# Altium footprint library 400236.PcbLib: 64 footprints (part 3 of 4)
Each footprint in its own frame and in the unit in brackets; x right, y up, seen from the top. Pads: shape width x height; smd on the part's side, far side on the other; paste and mask are expansions set on the pad; w line width, h text height; cw(c..) or ccw(c..) is an arc to the next point about the centre after c.
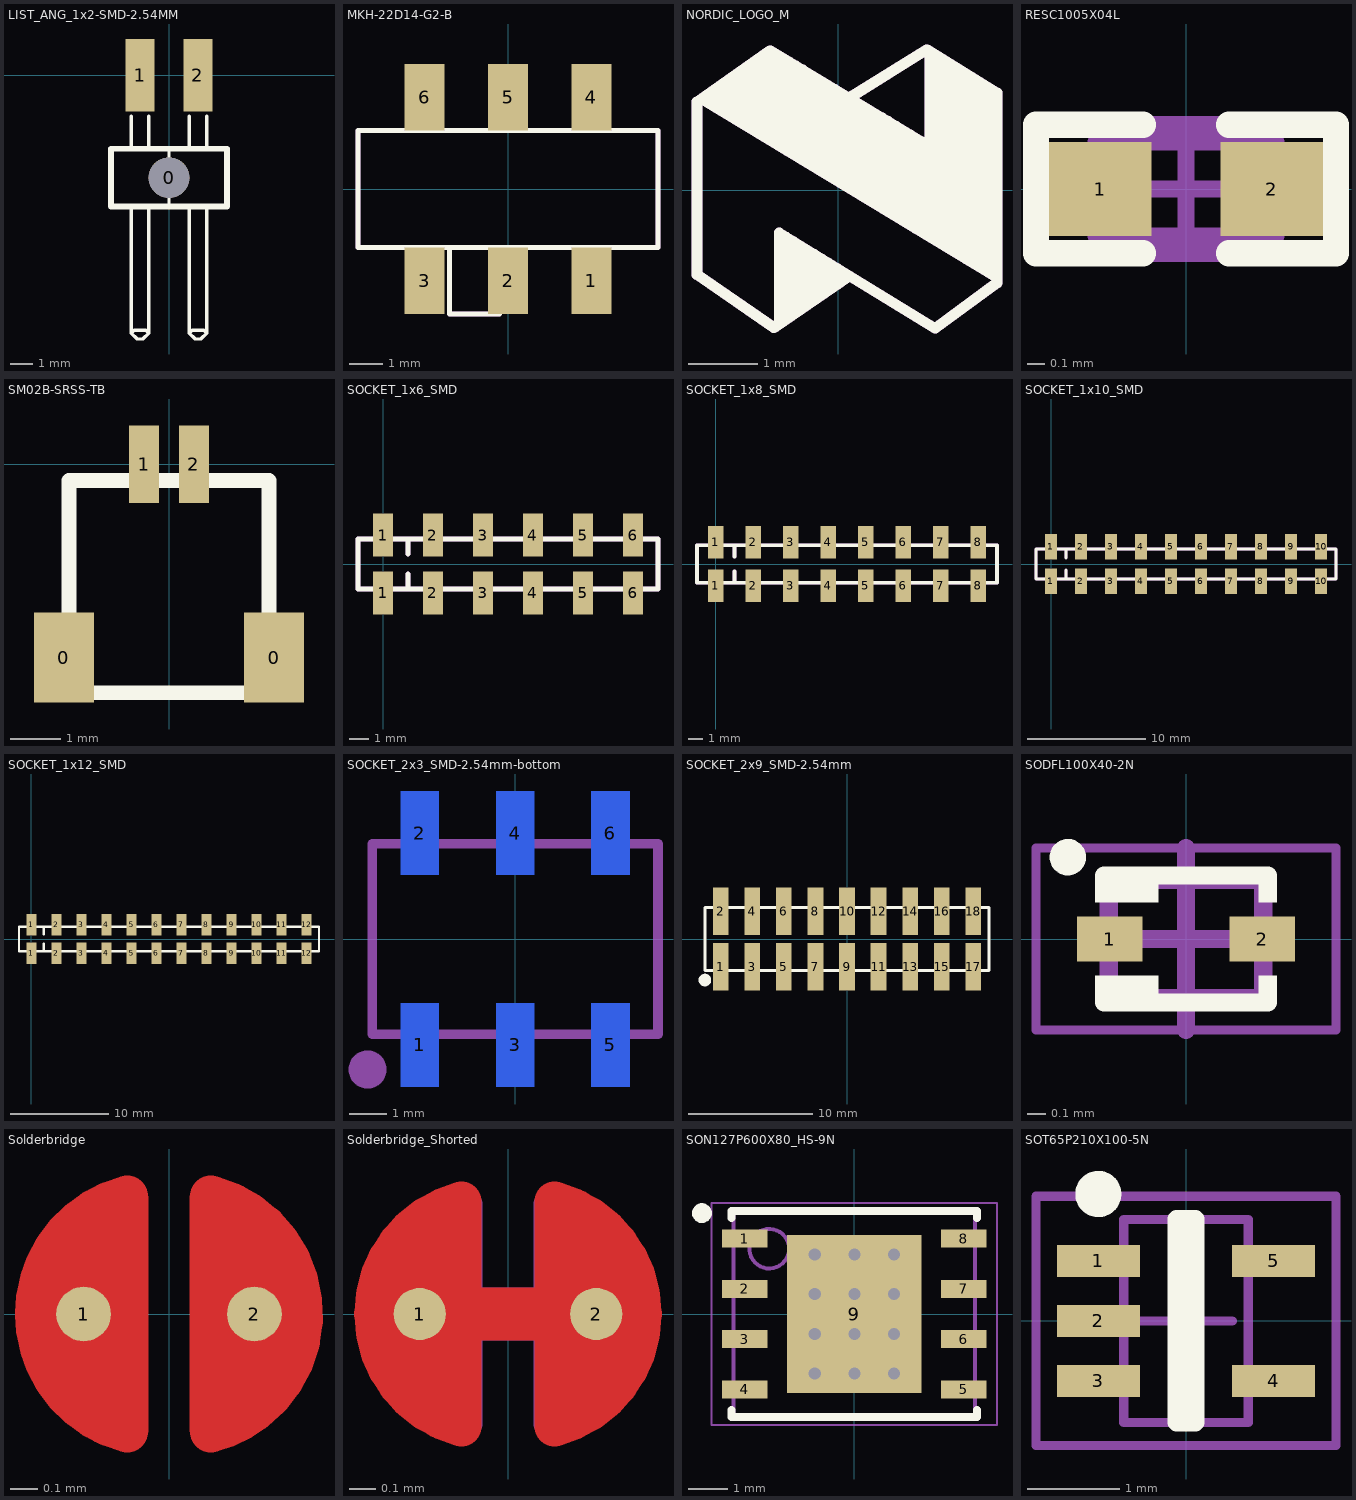
[diagram p2: the footprints below, top view; thin cyan lines are the x and y axes]

## LIST_ANG_1x2-SMD-2.54MM [mm]
pads (3):
  round 1.78 hole 1.78 unplated: 0(0,-4.496)
  rect 1.27x3.18 smd: 1(-1.27,0) 2(1.27,0)
Top Overlay:
  lines w0.15: -1.651,-5.766 -1.651,-11.324 ; -1.651,-3.226 -1.651,-1.8 ; -0.889,-5.766 -0.889,-11.324 ; -0.889,-3.226 -0.889,-1.8 ; 0,-5.766 0,-3.226 ; 0.889,-5.766 0.889,-11.324 ; 0.889,-3.226 0.889,-1.8 ; 1.651,-5.766 1.651,-11.324 ; 1.651,-3.226 1.651,-1.8 ; -1.651,-11.324 -1.524,-11.197 -1.016,-11.197 -0.889,-11.324 ; -1.651,-11.324 -1.397,-11.578 -1.143,-11.578 -0.889,-11.324 ; 0.889,-11.324 1.016,-11.197 1.524,-11.197 1.651,-11.324 ; 0.889,-11.324 1.143,-11.578 1.397,-11.578 1.651,-11.324
  lines w0.254: -2.54,-5.766 -2.54,-3.226 2.54,-3.226 2.54,-5.766 -2.54,-5.766
3D body "Samtec-TSM-102-01-L-SH-A.step": height 3.03, standoff -1.41, extent -2.56,-11.605 2.52,1.349

## MKH-22D14-G2-B [mm]
pads (6):
  rect 1.2x2 smd: 1(2.5,-2.75) 2(0,-2.75) 3(-2.5,-2.75) 4(2.5,2.75) 5(0,2.75) 6(-2.5,2.75)
Top Overlay:
  lines w0.152: -1.75,-1.75 -1.75,-3.75 -0.25,-3.75 -0.25,-1.75 ; -4.5,-1.75 4.5,-1.75 4.5,1.75 -4.5,1.75 -4.5,-1.75
Mechanical 7:
  lines w0.152: -1.75,-1.75 -1.75,-3.75 -0.25,-3.75 -0.25,-1.75 ; -4.5,-1.75 -4.5,1.75 4.5,1.75 4.5,-1.75 -4.5,-1.75
  text ".Designator" at -1.5,-0.25 h0.38
3D body "CL-SB-22B-11T.stp": height 3.5, standoff 0, extent -4.25,-3.75 4.25,2.5

## NORDIC_LOGO_M [mm]
Top Overlay:
  lines w0.152: -1.94,1.3 2.276,-1.25 ; -1.857,1.25 -0.876,1.93 ; -1.768,1.203 -0.788,1.891 ; -1.683,1.147 -0.697,1.839 ; -1.602,1.098 -0.615,1.79 ; -1.502,1.036 -0.515,1.729 ; -1.399,0.979 -0.417,1.668 ; -1.32,0.925 -0.332,1.619 ; -1.223,0.868 -0.237,1.56 ; -1.136,0.825 -0.157,1.512 ; -1.039,0.759 -0.055,1.449 ; -0.937,0.696 0.05,1.389 ; -0.93,-1.97 -2.03,-1.209 -2.03,1.27 -0.98,2.007 1.26,0.66 0.254,-0.025 ; -0.9,-1.956 0.16,-1.23 ; -0.85,-1.915 -0.85,-0.61 1.39,-1.98 2.276,-1.33 ; -0.832,0.633 0.17,1.336 ; -0.76,-1.85 -0.76,-0.668 ; -0.734,0.572 0.253,1.265 ; -0.64,-1.77 -0.64,-0.74 ; -0.638,0.517 0.343,1.205 ; -0.545,-1.71 -0.545,-0.8 ; -0.54,0.46 0.441,1.149 ; -0.461,0.411 0.523,1.102 ; -0.447,-1.64 -0.447,-0.86 ; -0.357,0.346 0.63,1.039 ; -0.35,-1.579 -0.35,-0.92 ; -0.274,0.295 0.714,0.988 ; -0.23,-1.497 -0.23,-0.99 ; -0.157,0.226 0.829,0.919 ; -0.14,-1.435 -0.14,-1.044 ; -0.052,0.163 0.933,0.855 ; -0.01,-1.346 -0.01,-1.124 ; 0.048,0.103 1.033,0.795 ; 0.138,0.044 1.144,0.711 ; 0.16,1.33 1.27,2.02 2.276,1.4 ; 0.22,-0.006 1.2,0.696 ; 0.305,-0.051 1.312,0.673 2.276,0.08 ; 0.426,-0.125 1.42,0.573 ; 0.534,-0.185 1.524,0.51 ; 0.635,-0.253 1.63,0.446 ; 0.741,-0.322 1.74,0.379 ; 0.836,-0.374 1.83,0.324 ; 0.932,-0.423 1.92,0.27 ; 1,-0.47 1.985,0.23 ; 1.103,-0.54 2.1,0.16 ; 1.238,-0.618 2.232,0.08 ; 1.31,0.73 1.31,1.99 ; 1.312,0.723 2.276,0.13 ; 1.312,0.853 2.276,0.26 ; 1.312,0.943 2.276,0.35 ; 1.312,1.073 2.276,0.48 ; 1.312,1.193 2.276,0.6 ; 1.312,1.273 2.276,0.68 ; 1.312,1.413 2.276,0.82 ; 1.312,1.533 2.276,0.94 ; 1.312,1.653 2.276,1.06 ; 1.312,1.743 2.276,1.15 ; 1.312,1.883 2.276,1.29 ; 1.325,-0.671 2.276,0.008 ; 1.435,-0.738 2.276,-0.136 ; 1.549,-0.809 2.276,-0.287 ; 1.645,-0.865 2.276,-0.411 ; 1.733,-0.916 2.276,-0.527 ; 1.829,-0.978 2.276,-0.651 ; 1.911,-1.028 2.276,-0.759 ; 2.025,-1.095 2.276,-0.908 ; 2.144,-1.166 2.276,-1.062 ; 2.276,-1.32 2.276,1.396
Mechanical 7:
  lines w0.152: -1.94,1.3 2.276,-1.25 ; -1.857,1.25 -0.876,1.93 ; -1.768,1.203 -0.788,1.891 ; -1.683,1.147 -0.697,1.839 ; -1.602,1.098 -0.615,1.79 ; -1.502,1.036 -0.515,1.729 ; -1.399,0.979 -0.417,1.668 ; -1.32,0.925 -0.332,1.619 ; -1.223,0.868 -0.237,1.56 ; -1.136,0.825 -0.157,1.512 ; -1.039,0.759 -0.055,1.449 ; -0.937,0.696 0.05,1.389 ; -0.93,-1.97 -2.03,-1.209 -2.03,1.27 -0.98,2.007 1.26,0.66 0.254,-0.025 ; -0.9,-1.956 0.16,-1.23 ; -0.85,-1.915 -0.85,-0.61 1.39,-1.98 2.276,-1.33 ; -0.832,0.633 0.17,1.336 ; -0.76,-1.85 -0.76,-0.668 ; -0.734,0.572 0.253,1.265 ; -0.64,-1.77 -0.64,-0.74 ; -0.638,0.517 0.343,1.205 ; -0.545,-1.71 -0.545,-0.8 ; -0.54,0.46 0.441,1.149 ; -0.461,0.411 0.523,1.102 ; -0.447,-1.64 -0.447,-0.86 ; -0.357,0.346 0.63,1.039 ; -0.35,-1.579 -0.35,-0.92 ; -0.274,0.295 0.714,0.988 ; -0.23,-1.497 -0.23,-0.99 ; -0.157,0.226 0.829,0.919 ; -0.14,-1.435 -0.14,-1.044 ; -0.052,0.163 0.933,0.855 ; -0.01,-1.346 -0.01,-1.124 ; 0.048,0.103 1.033,0.795 ; 0.138,0.044 1.144,0.711 ; 0.16,1.33 1.27,2.02 2.276,1.4 ; 0.22,-0.006 1.2,0.696 ; 0.305,-0.051 1.312,0.673 2.276,0.08 ; 0.426,-0.125 1.42,0.573 ; 0.534,-0.185 1.524,0.51 ; 0.635,-0.253 1.63,0.446 ; 0.741,-0.322 1.74,0.379 ; 0.836,-0.374 1.83,0.324 ; 0.932,-0.423 1.92,0.27 ; 1,-0.47 1.985,0.23 ; 1.103,-0.54 2.1,0.16 ; 1.238,-0.618 2.232,0.08 ; 1.31,0.73 1.31,1.99 ; 1.312,0.723 2.276,0.13 ; 1.312,0.853 2.276,0.26 ; 1.312,0.943 2.276,0.35 ; 1.312,1.073 2.276,0.48 ; 1.312,1.193 2.276,0.6 ; 1.312,1.273 2.276,0.68 ; 1.312,1.413 2.276,0.82 ; 1.312,1.533 2.276,0.94 ; 1.312,1.653 2.276,1.06 ; 1.312,1.743 2.276,1.15 ; 1.312,1.883 2.276,1.29 ; 1.325,-0.671 2.276,0.008 ; 1.435,-0.738 2.276,-0.136 ; 1.549,-0.809 2.276,-0.287 ; 1.645,-0.865 2.276,-0.411 ; 1.733,-0.916 2.276,-0.527 ; 1.829,-0.978 2.276,-0.651 ; 1.911,-1.028 2.276,-0.759 ; 2.025,-1.095 2.276,-0.908 ; 2.144,-1.166 2.276,-1.062 ; 2.276,-1.32 2.276,1.396

## RESC1005X04L [mm]
pads (2):
  rect 0.6x0.55 smd: 1(-0.5,0) 2(0.5,0)
Top Overlay:
  lines w0.152: -0.25,-0.375 -0.875,-0.375 -0.875,0.375 -0.25,0.375 ; 0.25,-0.375 0.875,-0.375 0.875,0.375 0.25,0.375
Mechanical 7:
  lines w0.1: -0.525,-0.275 0.525,-0.275 0.525,0.275 -0.525,0.275 -0.525,-0.275
  text ".Designator" at -0.532,0.384 h0.38
Mechanical 15:
  lines w0.1: -0.275,0 0.275,0 ; 0,-0.275 0,0.275 ; -0.875,-0.375 0.875,-0.375 0.875,0.375 -0.875,0.375 -0.875,-0.375
3D body "User Library-res0402-1.step": height 0.3, standoff 0, extent -0.5,-0.25 0.5,0.25

## SM02B-SRSS-TB [mm]
pads (4):
  rect 1.2x1.8 smd: 0(-2.1,-3.875) 0(2.1,-3.875)
  rect 0.6x1.55 smd: 1(-0.5,0) 2(0.5,0)
Top Overlay:
  lines w0.3: -2,-4.575 -2,-0.325 2,-0.325 2,-4.575 -2,-4.575
3D body "JST_SM02B-SRSS-TB.step": height 3, standoff 0, extent -1.994,-4.575 1.994,0.412

## SOCKET_1x6_SMD [mm]
pads (12):
  rect 1.02x2.19 smd: 1(0,-1.465) 1(0,1.465) 2(2.54,-1.465) 2(2.54,1.465) 3(5.08,-1.465) 3(5.08,1.465) 4(7.62,-1.465) 4(7.62,1.465) 5(10.16,-1.465) 5(10.16,1.465) 6(12.7,1.465) 6(12.7,-1.465)
Top Overlay:
  lines w0.254: 1.27,-1.27 1.27,-0.508 ; 1.27,0.508 1.27,1.27 ; -1.27,-1.27 13.97,-1.27 13.97,1.27 -1.27,1.27 -1.27,-1.27
Mechanical 7:
  lines w0.254: 1.27,-1.27 1.27,-0.508 ; 1.27,0.508 1.27,1.27 ; -1.27,-1.27 13.97,-1.27 13.97,1.27 -1.27,1.27 -1.27,-1.27
  text ".Designator" at 1.524,-0.254 h0.69
3D body "Samtec-SSM-106-L-SV.step": height 7.47, standoff -0.03, extent -1.27,-2.286 13.97,2.286

## SOCKET_1x8_SMD [mm]
pads (16):
  rect 1.02x2.19 smd: 1(0,-1.465) 1(0,1.465) 2(2.54,-1.465) 2(2.54,1.465) 3(5.08,-1.465) 3(5.08,1.465) 4(7.62,-1.465) 4(7.62,1.465) 5(10.16,-1.465) 5(10.16,1.465) 6(12.7,1.465) 6(12.7,-1.465) 7(15.24,-1.465) 7(15.24,1.465) 8(17.78,-1.465) 8(17.78,1.465)
Top Overlay:
  lines w0.254: 1.27,-1.27 1.27,-0.508 ; 1.27,0.508 1.27,1.27 ; -1.27,-1.27 19.05,-1.27 19.05,1.27 -1.27,1.27 -1.27,-1.27
Mechanical 7:
  lines w0.254: 1.27,-1.27 1.27,-0.508 ; 1.27,0.508 1.27,1.27 ; -1.27,-1.27 19.05,-1.27 19.05,1.27 -1.27,1.27 -1.27,-1.27
  text ".Designator" at 1.524,-0.254 h0.69
3D body "Samtec-SSM-108-L-SV.step": height 7.47, standoff -0.03, extent -1.27,-2.286 19.05,2.286

## SOCKET_1x10_SMD [mm]
pads (20):
  rect 1.02x2.19 smd: 1(0,-1.465) 1(0,1.465) 2(2.54,-1.465) 2(2.54,1.465) 3(5.08,-1.465) 3(5.08,1.465) 4(7.62,-1.465) 4(7.62,1.465) 5(10.16,-1.465) 5(10.16,1.465) 6(12.7,-1.465) 6(12.7,1.465) 7(15.24,-1.465) 7(15.24,1.465) 8(17.78,-1.465) 8(17.78,1.465) 9(20.32,-1.465) 9(20.32,1.465) 10(22.86,-1.465) 10(22.86,1.465)
Top Overlay:
  lines w0.254: 1.27,-1.27 1.27,-0.508 ; 1.27,0.508 1.27,1.27 ; -1.27,-1.27 -1.27,1.27 24.13,1.27 24.13,-1.27 -1.27,-1.27
Mechanical 7:
  lines w0.254: 1.27,-1.27 1.27,-0.508 ; 1.27,0.508 1.27,1.27 ; -1.27,-1.27 -1.27,1.27 24.13,1.27 24.13,-1.27 -1.27,-1.27
  text ".Designator" at 1.524,-0.254 h0.69
3D body "Samtec-SSM-110-L-SV.step": height 7.47, standoff -0.03, extent -1.27,-2.286 24.13,2.286

## SOCKET_1x12_SMD [mm]
pads (24):
  rect 1.02x2.19 smd: 1(0,-1.465) 1(0,1.465) 2(2.54,-1.465) 2(2.54,1.465) 3(5.08,-1.465) 3(5.08,1.465) 4(7.62,-1.465) 4(7.62,1.465) 5(10.16,-1.465) 5(10.16,1.465) 6(12.7,-1.465) 6(12.7,1.465) 7(15.24,-1.465) 7(15.24,1.465) 8(17.78,-1.465) 8(17.78,1.465) 9(20.32,-1.465) 9(20.32,1.465) 10(22.86,-1.465) 10(22.86,1.465) 11(25.4,-1.465) 11(25.4,1.465) 12(27.94,-1.465) 12(27.94,1.465)
Top Overlay:
  lines w0.254: 1.27,-1.27 1.27,-0.508 ; 1.27,0.508 1.27,1.27 ; -1.27,-1.27 29.21,-1.27 29.21,1.27 -1.27,1.27 -1.27,-1.27

## SOCKET_2x3_SMD-2.54mm-bottom [mm]
pads (6):
  rect 1.02x2.22 smd far side: 1(-2.54,-2.825) 2(-2.54,2.825) 3(0,-2.825) 4(0,2.825) 5(2.54,-2.825) 6(2.54,2.825)
Bottom Overlay:
  circle w0.508: c-3.936,-3.48 r0.254
  lines w0.254: -3.33,-2.54 -3.81,-2.54 -3.81,2.54 -3.33,2.54 ; -1.77,-2.54 -0.78,-2.54 ; -1.77,2.54 -0.78,2.54 ; 0.78,-2.54 1.77,-2.54 ; 0.78,2.54 1.77,2.54 ; 3.33,-2.54 3.81,-2.54 3.81,2.54 3.33,2.54
Mechanical 8:
  circle w0.508: c-3.936,-3.48 r0.254
  lines w0.254: -1.77,-2.54 -0.78,-2.54 ; -1.77,2.54 -0.78,2.54 ; 0.78,-2.54 1.77,-2.54 ; 0.78,2.54 1.77,2.54 ; 3.33,-2.54 3.81,-2.54 3.81,2.54 3.33,2.54 ; 3.556,-2.54 -3.81,-2.54 -3.81,2.54 3.556,2.54
  text ".Designator" at -3.429,-0.254 h0.69

## SOCKET_2x9_SMD-2.54mm [mil]
pads (18):
  rect 50x150 smd: 1(-400,-87.5) 2(-400,87.5) 3(-300,-87.5) 4(-300,87.5) 5(-200,-87.5) 6(-200,87.5) 7(-100,-87.5) 8(-100,87.5) 9(0,-87.5) 10(0,87.5) 11(100,-87.5) 12(100,87.5) 13(200,-87.5) 14(200,87.5) 15(300,-87.5) 16(300,87.5) 17(400,-87.5) 18(400,87.5)
Top Overlay:
  circle w20: c-450,-130 r10
  lines w10: -450,-100 450,-100 450,100 -450,100 -450,-100
3D body "Samtec-SSM-109-F-DV.step": height 290, standoff -2, extent -449.99,-138.49 450.01,138.51

## SODFL100X40-2N [mm]
pads (2):
  rect 0.36x0.25 smd: 1(-0.42,0) 2(0.42,0)
Top Overlay:
  circle w0.1: c-0.65,0.45 r0.05
  rectangle: 0.4,-0.35 0.5,-0.2
  rectangle: -0.5,0.2 -0.15,0.325
  rectangle: -0.5,-0.35 -0.15,-0.2
  rectangle: 0.4,0.2 0.5,0.35
  lines w0.1: -0.45,-0.3 -0.45,-0.35 0.45,-0.35 0.45,-0.3 ; -0.45,0.3 -0.45,0.35 0.45,0.35 0.45,0.3
Mechanical 7:
  lines w0.1: -0.425,-0.325 0.425,-0.325 0.425,0.325 -0.425,0.325 -0.425,-0.325
  text ".Designator" at -0.724,-0.177 h0.38
Mechanical 15:
  lines w0.05: -0.825,-0.5 0.825,-0.5 0.825,0.5 -0.825,0.5 -0.825,-0.5
  lines w0.1: -0.5,0 0.5,0 ; 0,-0.5 0,0.5
3D body "SODFL100X40-2N.step": height 0.4, standoff 0, extent -0.5,-0.325 0.5,0.325

## Solderbridge [mm]
pads (2):
  round 0.2 smd paste-10: 1(-0.312,0) 2(0.312,0)
Top Layer:
  region: -0.077,-0.432 -0.152,-0.505 -0.271,-0.467 -0.335,-0.424 -0.409,-0.351 -0.462,-0.292 -0.521,-0.193 -0.549,-0.099 -0.544,0.122 -0.518,0.193 -0.434,0.33 -0.351,0.411 -0.259,0.469 -0.157,0.5 -0.107,0.483 -0.077,0.43
  region: 0.077,0.432 0.152,0.505 0.271,0.467 0.335,0.424 0.409,0.351 0.462,0.292 0.521,0.193 0.549,0.099 0.544,-0.122 0.518,-0.193 0.434,-0.33 0.351,-0.411 0.259,-0.469 0.157,-0.5 0.107,-0.483 0.077,-0.43
  lines w0.152: -0.153,-0.431 cw(c-0.042,0) -0.471,-0.118 cw(c-0.042,0) -0.471,0.118 cw(c-0.042,0) -0.153,0.431 ; 0.153,-0.431 ccw(c0.042,0) 0.312,-0.353 ccw(c0.042,0) 0.153,0.431
Top Solder:
  circle w0.61: c-0.003,0 r0.279
Mechanical 7:
  region: -0.157,0.398 -0.282,0.398 -0.416,0.264 -0.501,0.178 -0.501,0.123 -0.501,-0.166 -0.271,-0.397 -0.157,-0.397 -0.16,0.066
  region: 0.157,-0.398 0.282,-0.398 0.416,-0.264 0.501,-0.178 0.501,-0.123 0.501,0.166 0.271,0.397 0.157,0.397 0.16,-0.066
  lines w0.102: -0.149,-0.42 cw(c-0.083,0) -0.149,0.42 -0.149,-0.42 ; 0.149,-0.42 ccw(c0.083,0) 0.149,0.42 0.149,-0.42
  text ".Designator" at -0.635,0.635 h0.38

## Solderbridge_Shorted [mm]
pads (2):
  round 0.2 smd paste-10: 1(-0.338,0) 2(0.338,0)
Top Layer:
  region: 0.102,0.432 0.178,0.505 0.296,0.467 0.361,0.424 0.434,0.351 0.488,0.292 0.546,0.193 0.574,0.099 0.569,-0.122 0.544,-0.193 0.46,-0.33 0.376,-0.411 0.284,-0.469 0.183,-0.5 0.132,-0.483 0.102,-0.43
  region: -0.102,-0.432 -0.178,-0.505 -0.296,-0.467 -0.361,-0.424 -0.434,-0.351 -0.488,-0.292 -0.546,-0.193 -0.574,-0.099 -0.569,0.122 -0.544,0.193 -0.46,0.33 -0.376,0.411 -0.284,0.469 -0.183,0.5 -0.132,0.483 -0.102,0.43
  lines w0.152: -0.178,-0.431 cw(c-0.068,0) -0.178,0.431 ; 0.178,-0.431 ccw(c0.068,0) 0.178,0.431
  lines w0.203: -0.338,0 0.338,0
Top Solder:
  circle w0.61: c0.028,0 r0.279
  circle w0.61: c-0.028,0 r0.279
Mechanical 7:
  region: 0.157,-0.398 0.282,-0.398 0.416,-0.264 0.501,-0.178 0.501,-0.123 0.501,0.166 0.271,0.397 0.157,0.397 0.16,-0.066
  region: -0.157,0.398 -0.282,0.398 -0.416,0.264 -0.501,0.178 -0.501,0.123 -0.501,-0.166 -0.271,-0.397 -0.157,-0.397 -0.16,0.066
  lines w0.102: -0.149,-0.42 cw(c-0.083,0) -0.149,0.42 -0.149,-0.42 ; 0.149,-0.42 ccw(c0.083,0) 0.149,0.42 0.149,-0.42
  lines w0.203: -0.254,0 0,0 0.254,0
  text ".Designator" at -0.635,0.635 h0.38

## SON127P600X80_HS-9N [mm]
pads (9):
  rect 1.15x0.45 smd: 1(-2.77,1.905) 2(-2.77,0.635) 3(-2.77,-0.635) 4(-2.77,-1.905) 5(2.77,-1.905) 6(2.77,-0.635) 7(2.77,0.635) 8(2.77,1.905)
  rect 3.4x4 smd paste-1.7: 9(0,0)
via -1,-1.5 diameter 0.61 hole 0.305
via -1,0.5 diameter 0.61 hole 0.305
via 0,-1.5 diameter 0.61 hole 0.305
via 0,-0.5 diameter 0.61 hole 0.305
via -1,-0.5 diameter 0.61 hole 0.305
via 0,0.5 diameter 0.61 hole 0.305
via -1,1.5 diameter 0.61 hole 0.305
via 0,1.5 diameter 0.61 hole 0.305
via 1,-1.5 diameter 0.61 hole 0.305
via 1,-0.5 diameter 0.61 hole 0.305
via 1,0.5 diameter 0.61 hole 0.305
via 1,1.5 diameter 0.61 hole 0.305
Top Overlay:
  circle w0.25: c-3.85,2.55 r0.125
  lines w0.2: -3.1,-2.43 -3.1,-2.6 3.1,-2.6 3.1,-2.43 ; -3.1,2.43 -3.1,2.6 3.1,2.6 3.1,2.43
Top Paste:
  rectangle: -1.595,-1.895 -0.665,-0.765
  rectangle: -1.595,-0.565 -0.665,0.565
  rectangle: -0.465,-1.895 0.465,-0.765
  rectangle: -0.465,-0.565 0.465,0.565
  rectangle: -1.595,0.765 -0.665,1.895
  rectangle: -0.465,0.765 0.465,1.895
  rectangle: 0.665,-1.895 1.595,-0.765
  rectangle: 0.665,-0.565 1.595,0.565
  rectangle: 0.665,0.765 1.595,1.895
Mechanical 7:
  circle w0.1: c-2.15,1.65 r0.5
  lines w0.1: -3.05,-2.55 -3.05,2.55 3.05,2.55 3.05,-2.55 -3.05,-2.55
  text ".Designator" at 0,0 h0.38
Mechanical 15:
  lines w0.05: -3.605,-2.8 -3.605,2.8 3.605,2.8 3.605,-2.8 -3.605,-2.8
  lines w0.1: -0.5,0 0.5,0 ; 0,-0.5 0,0.5
3D body "SON127P600X80_HS-9N.step": height 0.8, standoff 0, extent -3.051,-2.55 3.051,2.55

## SOT65P210X100-5N [mm]
pads (5):
  rect 0.9x0.35 smd: 1(-0.95,0.65) 2(-0.95,0) 3(-0.95,-0.65) 4(0.95,-0.65) 5(0.95,0.65)
Top Overlay:
  circle w0.25: c-0.95,1.375 r0.125
  lines w0.2: -0.1,-1.1 -0.1,1.1 0.1,1.1 0.1,-1.1 -0.1,-1.1
Mechanical 13:
  lines w0.1: -0.675,-1.1 -0.675,1.1 0.675,1.1 0.675,-1.1 -0.675,-1.1
Mechanical 15:
  lines w0.1: -0.5,0 0.5,0 ; 0,-0.5 0,0.5 ; -1.625,-1.35 1.625,-1.35 1.625,1.35 -1.625,1.35 -1.625,-1.35
3D body "User Library-SC70-5.STEP": height 0.97, standoff 0, extent -1.1,-1 1.1,1